# EAGLE library part ARDUINO2009_PIN_1 (library arduino)
The Arduino Duemilanove ("2009") is a microcontroller board based on the ATmega168 or ATmega328. - 14 digital input/output pins (of which 6 can be used as PWM outputs) - 6 analog inputs, a 16 MHz crystal oscillator - USB connection - power jack - ISP header - reset button It contains everything needed to support the microcontroller; simply connect it to a computer with a USB cable or power it with a AC-to-DC adapter or battery to get started http://arduino.cc/en/Main/ArduinoBoardDuemilanove
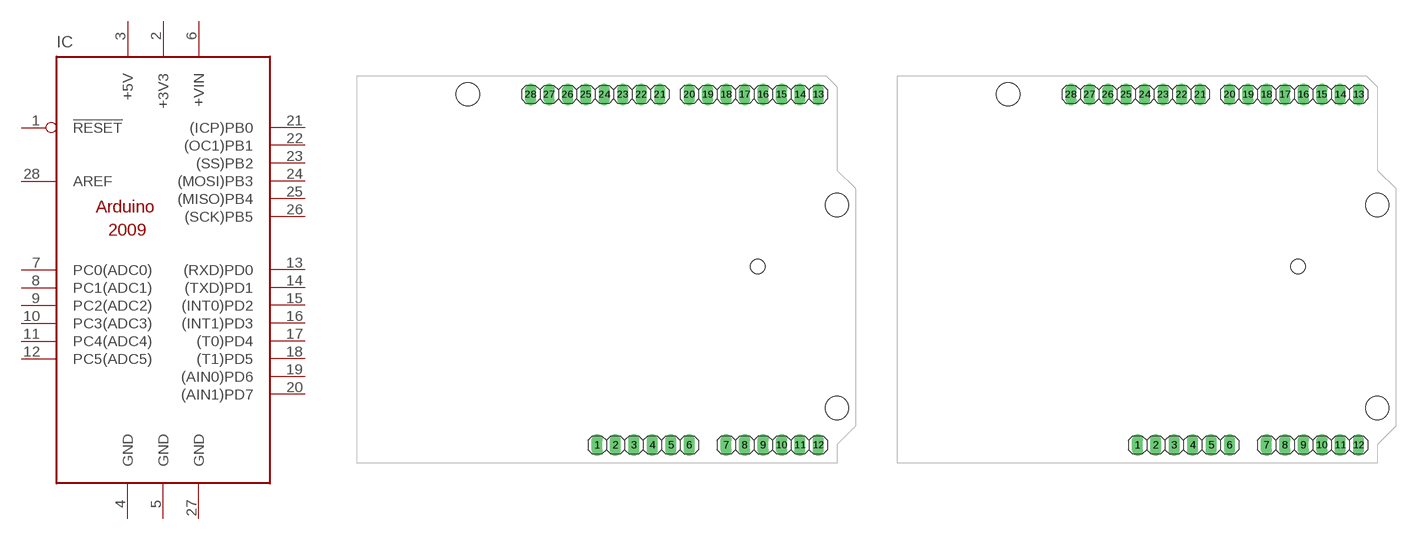
[diagram p1: symbol with the pads of ARDUINO2009; footprints ARDUINO2009, ARDUINO2009_1]

Designator prefix IC

## ARDUINO2009_PIN_10  [ARDUINO2009]
1  !RESET
2  +3V3  pwr
3  +5V  pwr
4  GND  pwr
5  GND  pwr
6  +VIN
7  PC0(ADC0)
8  PC1(ADC1)
9  PC2(ADC2)
10  PC3(ADC3)
11  PC4(ADC4)
12  PC5(ADC5)
13  (RXD)PD0
14  (TXD)PD1
15  (INT0)PD2
16  (INT1)PD3
17  (T0)PD4
18  (T1)PD5
19  (AIN0)PD6
20  (AIN1)PD7
21  (ICP)PB0
22  (OC1)PB1
23  (SS)PB2
24  (MOSI)PB3
25  (MISO)PB4
26  (SCK)PB5
27  GND  pwr
28  AREF

## ARDUINO2009_PIN_11  [ARDUINO2009_1]
Pads as for ARDUINO2009

## ARDUINO2009_PIN_12  [ARDUINO2009_2]
Pads as for ARDUINO2009

## Footprint ARDUINO2009 (pad centres in mm)
drill 1.016 long: 1 33.02,2.54; 2 35.56,2.54; 3 38.1,2.54; 4 40.64,2.54; 5 43.18,2.54; 6 45.72,2.54; 7 50.8,2.54; 8 53.34,2.54; 9 55.88,2.54; 10 58.42,2.54; 11 60.96,2.54; 12 63.5,2.54; 13 63.5,50.8; 14 60.96,50.8; 15 58.42,50.8; 16 55.88,50.8; 17 53.34,50.8; 18 50.8,50.8; 19 48.26,50.8; 20 45.72,50.8; 21 41.656,50.8; 22 39.116,50.8; 23 36.576,50.8; 24 34.036,50.8; 25 31.496,50.8; 26 28.956,50.8; 27 26.416,50.8; 28 23.876,50.8
hole 3.2 at 15.24,50.8
hole 3.2 at 66.04,35.56
hole 3.2 at 66.04,7.62
hole 2 at 55.17,27.114

## Footprint ARDUINO2009_1 (pad centres in mm)
drill 1.016 long: 1 33.02,2.54; 2 35.56,2.54; 3 38.1,2.54; 4 40.64,2.54; 5 43.18,2.54; 6 45.72,2.54; 7 50.8,2.54; 8 53.34,2.54; 9 55.88,2.54; 10 58.42,2.54; 11 60.96,2.54; 12 63.5,2.54; 13 63.5,50.8; 14 60.96,50.8; 15 58.42,50.8; 16 55.88,50.8; 17 53.34,50.8; 18 50.8,50.8; 19 48.26,50.8; 20 45.72,50.8; 21 41.656,50.8; 22 39.116,50.8; 23 36.576,50.8; 24 34.036,50.8; 25 31.496,50.8; 26 28.956,50.8; 27 26.416,50.8; 28 23.876,50.8
hole 3.2 at 15.24,50.8
hole 3.2 at 66.04,35.56
hole 3.2 at 66.04,7.62
hole 2 at 55.17,27.114

## Footprint ARDUINO2009_2 (pad centres in mm)
drill 1.016 long: 1 33.02,2.54; 2 35.56,2.54; 3 38.1,2.54; 4 40.64,2.54; 5 43.18,2.54; 6 45.72,2.54; 7 50.8,2.54; 8 53.34,2.54; 9 55.88,2.54; 10 58.42,2.54; 11 60.96,2.54; 12 63.5,2.54; 13 63.5,50.8; 14 60.96,50.8; 15 58.42,50.8; 16 55.88,50.8; 17 53.34,50.8; 18 50.8,50.8; 19 48.26,50.8; 20 45.72,50.8; 21 41.656,50.8; 22 39.116,50.8; 23 36.576,50.8; 24 34.036,50.8; 25 31.496,50.8; 26 28.956,50.8; 27 26.416,50.8; 28 23.876,50.8